# Altium footprint library Transistor.PcbLib: 3 footprints
Each footprint in its own frame and in the unit in brackets; x right, y up, seen from the top. Pads: shape width x height; smd on the part's side, far side on the other; paste and mask are expansions set on the pad; w line width, h text height; cw(c..) or ccw(c..) is an arc to the next point about the centre after c.
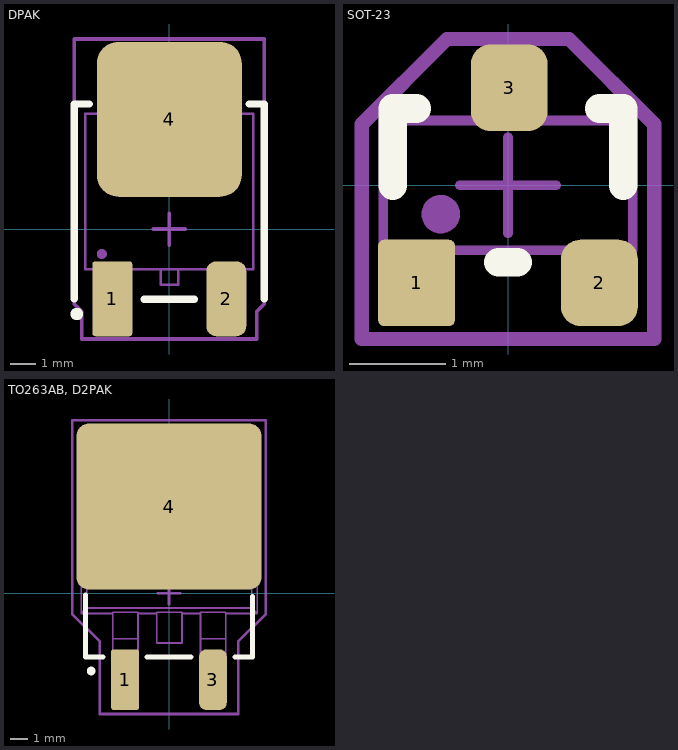
[diagram p0: the footprints below, top view; thin cyan lines are the x and y axes]

## DPAK [mm]
pads (3):
  rrect15% 1.6x3 smd: 1(-2.28,-2.79)
  rrect50% 1.6x3 smd: 2(2.28,-2.79)
  rrect30% 5.8x6.2 smd: 4(0,4.39)
Top Overlay:
  circle w0.25: c-3.7,-3.4 r0.125
  lines w0.3: -3.8,-2.794 -3.8,5 -3.2,5 ; -1.005,-2.8 1,-2.8 ; 3.2,5 3.8,5 3.8,-2.794
Mechanical 13:
  circle w0.2: c-2.7,-1 r0.1
  lines w0.1: -2.77,4.62 -2.77,4.99 -2.6,5.16 2.54,5.16 2.77,4.93 2.77,4.62 ; -2.64,-1.6 -2.64,-3.08 -1.94,-3.08 -1.94,-1.61 ; -0.35,-1.6 -0.35,-2.23 0.35,-2.23 0.35,-1.61 ; 1.93,-1.6 1.93,-3.08 2.63,-3.08 2.63,-1.61 ; -3.365,-1.6 -3.365,4.62 3.365,4.62 3.365,-1.6 -3.365,-1.6
Mechanical 15:
  lines w0.15: -0.635,0 0.635,0 ; 0,-0.635 0,0.635 ; -3.8,-3 -3.5,-3.3 -3.5,-4.4 3.5,-4.4 3.5,-3.3 3.8,-3 3.8,7.6 -3.8,7.6 -3.8,-3
Mechanical 17:
  text ".Designator" at -0.346,-0.162 h1.5
3D body "User Library-DPAK_TO-252AA.step": height 2.37, standoff -0.03, extent -3.367,-3.398 3.367,6.702

## SOT-23 [mm]
height 1.2
pads (3):
  rrect15% 0.8x0.9 smd: 1(-0.953,-1.016)
  rrect50% 0.8x0.9 smd: 2(0.953,-1.016) 3(0.013,1.016)
Top Overlay:
  lines w0.3: -1.2,0 -1.2,0.8 -0.953,0.8 ; -0.1,-0.8 0.1,-0.8 ; 0.953,0.8 1.2,0.8 1.2,0
Mechanical 13:
  circle w0.2: c-0.7,-0.3 r0.1
  lines w0.1: -1.1,-0.675 -1.1,-1.125 -0.8,-1.125 -0.8,-0.675 ; -0.1,0.675 -0.1,1.126 0.2,1.126 0.2,0.675 ; 0.8,-0.675 0.8,-1.125 1.1,-1.125 1.1,-0.675 ; -1.3,-0.675 1.3,-0.675 1.3,0.675 -1.3,0.675 -1.3,-0.675
Mechanical 15:
  lines w0.1: -0.5,0 0.5,0 ; 0,-0.5 0,0.5
  lines w0.15: -1.524,-1.6 -1.524,0.635 -0.635,1.524 0.635,1.524 1.524,0.635 1.524,-1.6 -1.524,-1.6
Mechanical 17:
  text ".Designator" at -0.346,-0.162 h1
3D body "sot23.STEP": height 1.22, standoff 0, extent -1.5,-1.125 1.5,1.126

## TO263AB, D2PAK [mm]
height 4.8
pads (3):
  rrect15% 1.6x3.5 smd: 1(-2.54,-5)
  rrect50% 1.6x3.5 smd: 3(2.54,-5)
  rrect15% 10.7x9.6 smd: 4(0,5)
Top Overlay:
  circle w0.25: c-4.5,-4.5 r0.125
  lines w0.3: -4.826,-0.1 -4.826,-3.683 -3.81,-3.683 ; -1.27,-3.683 1.27,-3.683 ; 3.81,-3.683 4.826,-3.683 4.826,-0.2
Mechanical 13:
  circle w0.2: c-4.5,-4.5 r0.1
  lines w0.1: -5.065,-1.173 -4.751,-0.859 ; -5.065,-1.173 -5.065,7.842 ; -5.065,-1.173 -3.255,-1.173 -5.065,-1.173 ; -5.065,-1.173 -4.751,-0.859 ; -5.065,-1.173 -5.065,7.842 ; -5.065,7.842 -4.751,7.528 ; -5.065,7.842 -4.935,7.972 ; -5.065,7.842 -4.751,7.528 ; -5.065,7.842 -4.935,7.972 ; -4.935,7.972 4.965,7.972 ; -4.935,7.972 -4.935,8.316 ; -4.935,7.972 4.965,7.972 ; -4.935,7.972 -4.935,8.316 ; -4.935,8.316 -3.435,9.182 ; -4.935,8.316 -3.435,9.182 ; -4.751,-0.859 -4.751,7.528 ; -4.751,-0.859 4.781,-0.859 ; -4.751,-0.859 -4.751,7.528 ; -4.751,-0.859 4.781,-0.859 ; -4.751,7.528 4.781,7.528 ; -4.751,7.528 4.781,7.528 ; -3.435,9.182 3.465,9.182 ; -3.435,9.182 3.465,9.182 ; -3.255,-3.716 -2.9,-3.716 ; -3.255,-3.716 -3.255,-3.4 ; -3.255,-3.716 -2.9,-3.716 ; -3.255,-3.716 -3.255,-3.4 ; -3.255,-3.4 -3.255,-2.639 ; -3.255,-3.4 -1.795,-3.4 ; -3.255,-3.4 -3.255,-2.639 ; -3.255,-3.4 -1.795,-3.4 ; -3.255,-2.639 -3.255,-1.103 ; -3.255,-2.639 -1.795,-2.639 ; -3.255,-2.639 -3.255,-1.103 ; -3.255,-2.639 -1.795,-2.639 ; -3.255,-1.103 -1.795,-1.103 ; -3.255,-1.103 -1.795,-1.103 ; -2.9,-6.082 -2.15,-6.082 ; -2.9,-6.082 -2.9,-6.045 ; -2.9,-6.082 -2.15,-6.082 ; -2.9,-6.082 -2.9,-6.045 ; -2.9,-6.045 -2.15,-6.045 ; -2.9,-6.045 -2.9,-4.305 ; -2.9,-6.045 -2.15,-6.045 ; -2.9,-6.045 -2.9,-4.305 ; -2.9,-4.305 -2.9,-4.032 ; -2.9,-4.305 -2.15,-4.305 ; -2.9,-4.305 -2.9,-4.032 ; -2.9,-4.305 -2.15,-4.305 ; -2.9,-4.032 -2.9,-3.716 ; -2.9,-4.032 -2.15,-4.032 ; -2.9,-4.032 -2.9,-3.716 ; -2.9,-4.032 -2.15,-4.032 ; -2.15,-6.082 -2.15,-6.045 ; -2.15,-6.082 -2.15,-6.045 ; -2.15,-6.045 -2.15,-4.305 ; -2.15,-6.045 -2.15,-4.305 ; -2.15,-4.305 -2.15,-4.032 ; -2.15,-4.305 -2.15,-4.032 ; -2.15,-4.032 -2.15,-3.716 ; -2.15,-4.032 -2.15,-3.716 ; -2.15,-3.716 -1.795,-3.716 ; -2.15,-3.716 -1.795,-3.716 ; -1.795,-3.716 -1.795,-3.4 ; -1.795,-3.716 -1.795,-3.4 ; -1.795,-3.4 -1.795,-2.639 ; -1.795,-3.4 -1.795,-2.639 ; -1.795,-2.639 -1.795,-1.103 ; -1.795,-2.639 -1.795,-1.103 ; -0.715,-2.883 0.745,-2.883 ; -0.715,-2.883 -0.715,-1.103 ; -0.715,-2.883 0.745,-2.883 ; -0.715,-2.883 -0.715,-1.103 ; -0.715,-1.103 0.745,-1.103 ; -0.715,-1.103 0.745,-1.103 ; 0.745,-2.883 0.745,-1.103 ; 0.745,-2.883 0.745,-1.103 ; 1.825,-3.716 2.18,-3.716 ; 1.825,-3.716 1.825,-3.4 ; 1.825,-3.716 2.18,-3.716 ; 1.825,-3.716 1.825,-3.4 ; 1.825,-3.4 1.825,-2.639 ; 1.825,-3.4 3.285,-3.4 ; 1.825,-3.4 1.825,-2.639 ; 1.825,-3.4 3.285,-3.4 ; 1.825,-2.639 1.825,-1.103 ; 1.825,-2.639 3.285,-2.639 ; 1.825,-2.639 1.825,-1.103 ; 1.825,-2.639 3.285,-2.639 ; 1.825,-1.103 3.285,-1.103 ; 1.825,-1.103 3.285,-1.103 ; 2.18,-6.082 2.93,-6.082 ; 2.18,-6.082 2.18,-6.045 ; 2.18,-6.082 2.93,-6.082 ; 2.18,-6.082 2.18,-6.045 ; 2.18,-6.045 2.93,-6.045 ; 2.18,-6.045 2.18,-4.305 ; 2.18,-6.045 2.93,-6.045 ; 2.18,-6.045 2.18,-4.305 ; 2.18,-4.305 2.18,-4.032 ; 2.18,-4.305 2.93,-4.305 ; 2.18,-4.305 2.18,-4.032 ; 2.18,-4.305 2.93,-4.305 ; 2.18,-4.032 2.18,-3.716 ; 2.18,-4.032 2.93,-4.032 ; 2.18,-4.032 2.18,-3.716 ; 2.18,-4.032 2.93,-4.032 ; 2.93,-6.082 2.93,-6.045 ; 2.93,-6.082 2.93,-6.045 ; 2.93,-6.045 2.93,-4.305 ; 2.93,-6.045 2.93,-4.305 ; 2.93,-4.305 2.93,-4.032 ; 2.93,-4.305 2.93,-4.032 ; 2.93,-4.032 2.93,-3.716 ; 2.93,-4.032 2.93,-3.716 ; 2.93,-3.716 3.285,-3.716 ; 2.93,-3.716 3.285,-3.716 ; 3.285,-3.716 3.285,-3.4 ; 3.285,-3.716 3.285,-3.4 ; 3.285,-3.4 3.285,-2.639 ; 3.285,-3.4 3.285,-2.639 ; 3.285,-2.639 3.285,-1.103 ; 3.285,-2.639 3.285,-1.103 ; 3.465,9.182 4.965,8.316 ; 3.465,9.182 4.965,8.316 ; 4.781,-0.859 5.095,-1.173 ; 4.781,-0.859 4.781,7.528 ; 4.781,-0.859 5.095,-1.173 ; 4.781,-0.859 4.781,7.528 ; 4.781,7.528 5.095,7.842 ; 4.781,7.528 5.095,7.842 ; 4.965,7.972 5.095,7.842 ; 4.965,7.972 4.965,8.316 ; 4.965,7.972 5.095,7.842 ; 4.965,7.972 4.965,8.316 ; 5.095,-1.173 5.095,7.842 ; 5.095,-1.173 3.285,-1.173 5.095,-1.173 ; 5.095,-1.173 5.095,7.842 ; -1.795,-1.173 -0.715,-1.173 -1.795,-1.173 ; 0.745,-1.173 1.825,-1.173 0.745,-1.173
Mechanical 15:
  lines w0.15: -0.635,0 0.635,0 ; 0,-0.635 0,0.635 ; -5.6,-1.2 -5.6,10 5.6,10 5.6,-1.2 4,-2.8 4,-6.985 -4,-6.985 -4,-2.8 -5.6,-1.2
Mechanical 17:
  text ".Designator" at -0.346,-0.162 h1.5
3D body "to-263.STEP": height 4.3, standoff 0, extent -5.047,-6.635 4.953,9.245